# EAGLE library part MSP430I2041 (library EagleLibrary)
Mixed-signal microcontroller with 24-bit ADC
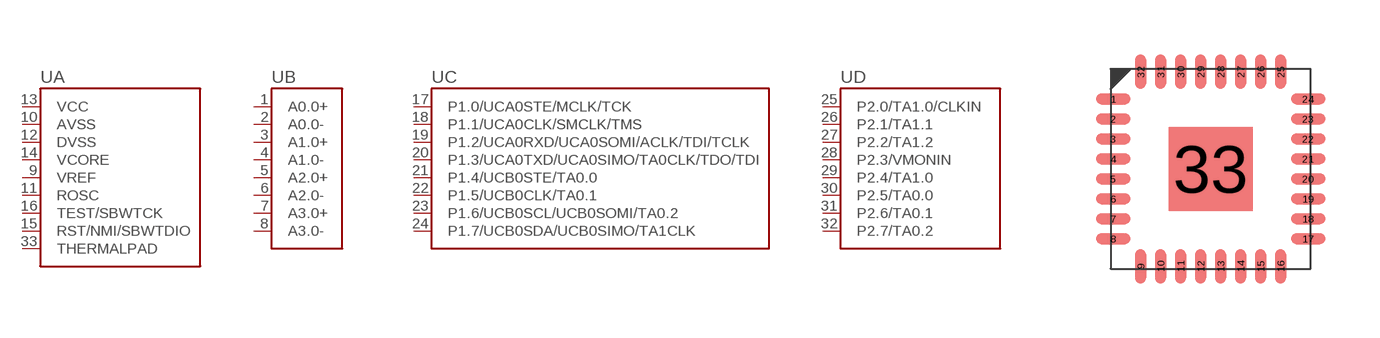
[diagram p6: symbol with the pads of MSP430I2041; footprint MSP430I2041]

Designator prefix U; gates A=MSP430I2041_0 B=MSP430I2041_1 C=MSP430I2041_2 D=MSP430I2041_3

## MSP430I2041 (MFG: Texas Instruments; PN: MSP430I2041)  [MSP430I2041]
1  B:A0.0+
2  B:A0.0-
3  B:A1.0+
4  B:A1.0-
5  B:A2.0+
6  B:A2.0-
7  B:A3.0+
8  B:A3.0-
9  A:VREF
10  A:AVSS
11  A:ROSC
12  A:DVSS
13  A:VCC
14  A:VCORE
15  A:RST/NMI/SBWTDIO
16  A:TEST/SBWTCK
17  C:P1.0/UCA0STE/MCLK/TCK
18  C:P1.1/UCA0CLK/SMCLK/TMS
19  C:P1.2/UCA0RXD/UCA0SOMI/ACLK/TDI/TCLK
20  C:P1.3/UCA0TXD/UCA0SIMO/TA0CLK/TDO/TDI
21  C:P1.4/UCB0STE/TA0.0
22  C:P1.5/UCB0CLK/TA0.1
23  C:P1.6/UCB0SCL/UCB0SOMI/TA0.2
24  C:P1.7/UCB0SDA/UCB0SIMO/TA1CLK
25  D:P2.0/TA1.0/CLKIN
26  D:P2.1/TA1.1
27  D:P2.2/TA1.2
28  D:P2.3/VMONIN
29  D:P2.4/TA1.0
30  D:P2.5/TA0.0
31  D:P2.6/TA0.1
32  D:P2.7/TA0.2
33  A:THERMALPAD

## Footprint MSP430I2041 (pad centres in mm)
32-QFN, 0.50 mm pitch, 5.00 X 5.00 X 1.00 mm body, 2.10 X 2.10 mm thermal pad 32-pin QFN package with 0.50 mm pitch with body size 5.00 X 5.00 X 1.00 mm and thermal pad size 2.10 X 2.10 mm
smd 0.86 x 0.27: 1 -2.435,1.75; 2 -2.435,1.25; 3 -2.435,0.75; 4 -2.435,0.25; 5 -2.435,-0.25; 6 -2.435,-0.75; 7 -2.435,-1.25; 8 -2.435,-1.75; 17 2.435,-1.75; 18 2.435,-1.25; 19 2.435,-0.75; 20 2.435,-0.25; 21 2.435,0.25; 22 2.435,0.75; 23 2.435,1.25; 24 2.435,1.75
smd 0.27 x 0.86: 9 -1.75,-2.435; 10 -1.25,-2.435; 11 -0.75,-2.435; 12 -0.25,-2.435; 13 0.25,-2.435; 14 0.75,-2.435; 15 1.25,-2.435; 16 1.75,-2.435; 25 1.75,2.435; 26 1.25,2.435; 27 0.75,2.435; 28 0.25,2.435; 29 -0.25,2.435; 30 -0.75,2.435; 31 -1.25,2.435; 32 -1.75,2.435
smd 2.1 x 2.1: 33 0,0